# Altium footprint library Inductor_SMD.PcbLib: 259 footprints (part 13 of 17)
Each footprint in its own frame and in the unit in brackets; x right, y up, seen from the top. Pads: shape width x height; smd on the part's side, far side on the other; paste and mask are expansions set on the pad; w line width, h text height; cw(c..) or ccw(c..) is an arc to the next point about the centre after c.
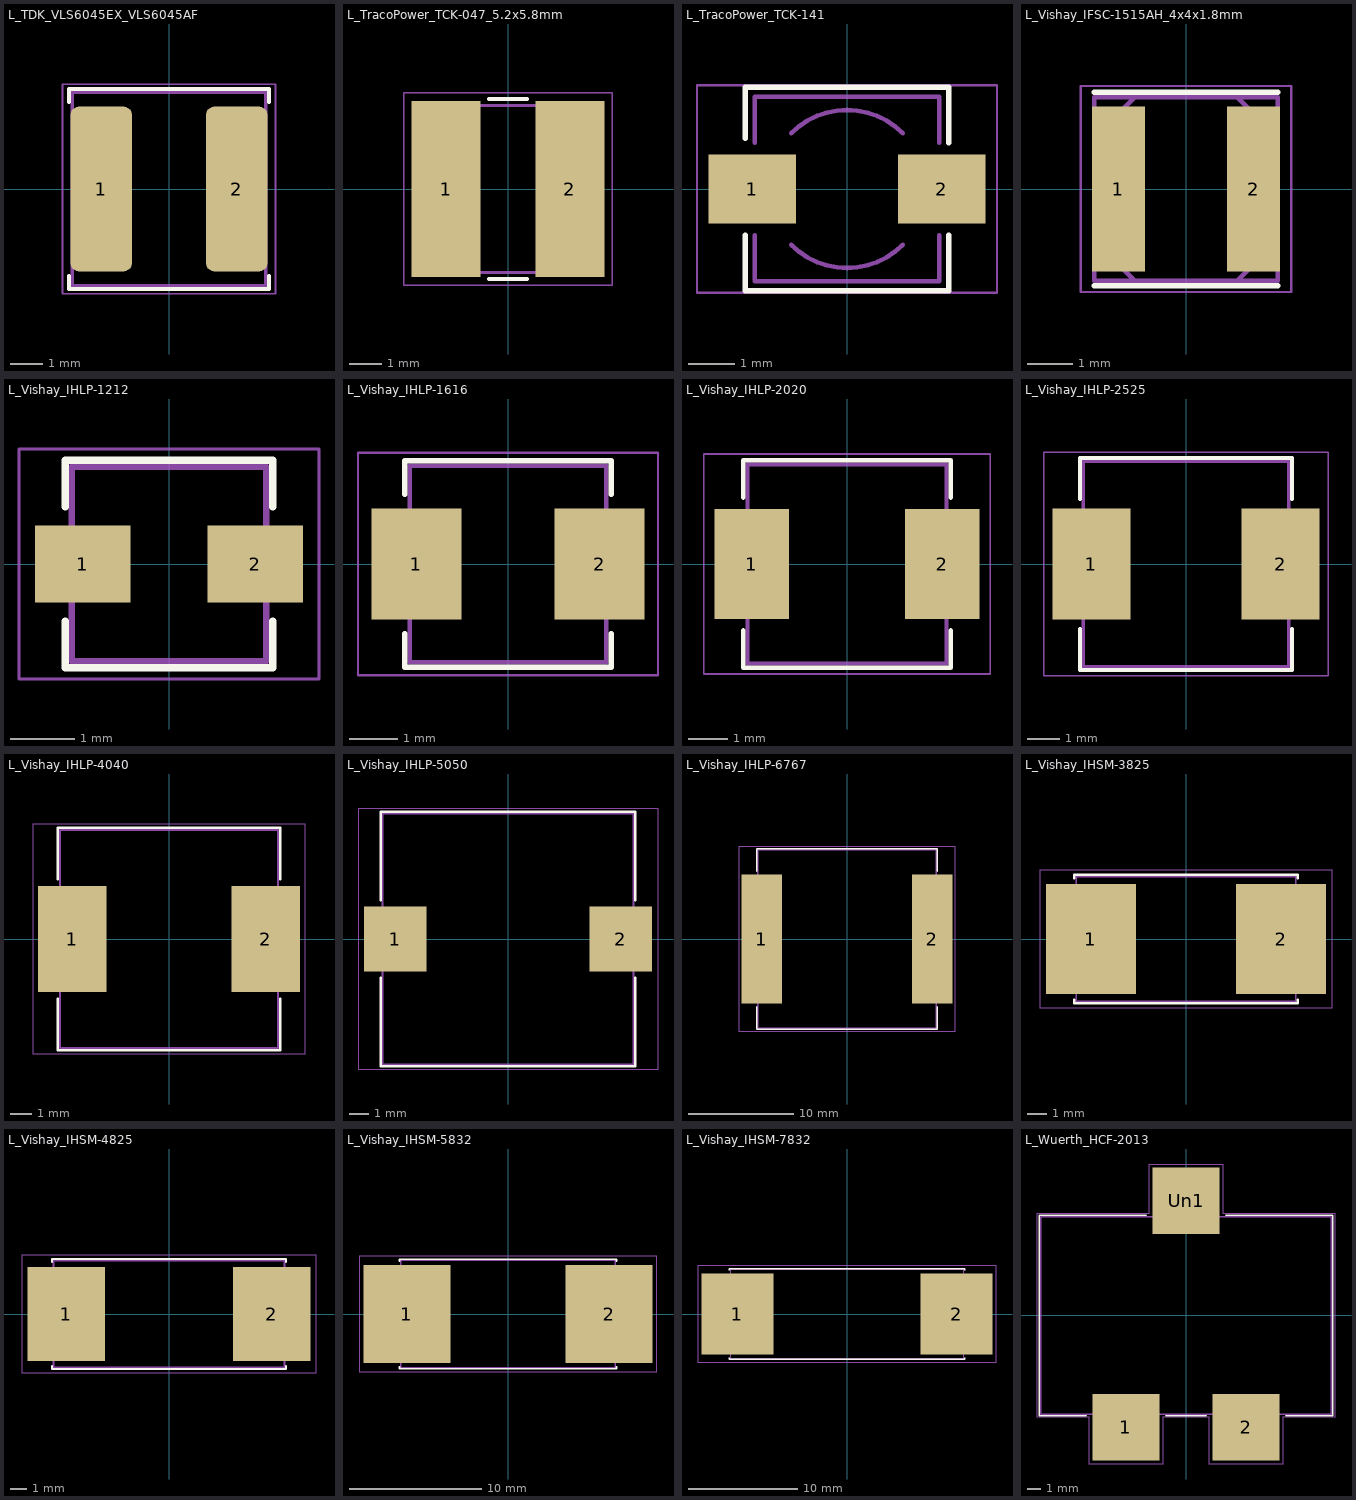
[diagram p12: the footprints below, top view; thin cyan lines are the x and y axes]

## L_TDK_VLS6045EX_VLS6045AF [mm]
pads (2):
  rrect25% 1.9x5.1 smd: 1(-2.1,0) 2(2.1,0)
F.SilkS:
  lines w0.12: -3.1,-2.7 -3.1,-3.1 3.1,-3.1 3.1,-2.7 ; -3.1,2.7 -3.1,3.1 3.1,3.1 3.1,2.7
F.CrtYd:
  lines w0.05: -3.3,-3.25 -3.3,3.25 3.3,3.25 3.3,-3.25 -3.3,-3.25
F.Fab:
  lines w0.1: -3,-3 -3,3 3,3 3,-3 -3,-3
  text "'.Designator'" at -4.047,-0.84 h1

## L_TracoPower_TCK-047_5.2x5.8mm [mm]
pads (2):
  rect 2.15x5.5 smd: 1(-1.925,0) 2(1.925,0)
F.SilkS:
  lines w0.12: -0.6,-2.8 0.6,-2.8 ; -0.6,2.8 0.6,2.8
F.CrtYd:
  lines w0.05: -3.25,-3 -3.25,3 3.25,3 3.25,-3 -3.25,-3
F.Fab:
  lines w0.1: -1.285,-2.6 1.285,-2.6 ccw(c0,0) 1.285,2.6 -1.285,2.6 ccw(c0,0) -1.285,-2.6
  text "'.Designator'" at -4.047,-0.84 h1

## L_TracoPower_TCK-141 [mm]
pads (2):
  rect 1.9x1.5 smd: 1(-2.05,0) 2(2.05,0)
F.SilkS:
  lines w0.12: -2.2,-1 -2.2,-2.2 2.2,-2.2 2.2,-1 ; -2.2,1.1 -2.2,2.2 2.2,2.2 2.2,1
F.CrtYd:
  lines w0.05: -3.25,-2.25 -3.25,2.25 3.25,2.25 3.25,-2.25 -3.25,-2.25
F.Fab:
  lines w0.1: -2,-2 2,-2 2,-1 ; -2,-1.95 -2,-1 ; -2,1 -2,2 2,2 ; -1.21,-1.21 ccw(c0,0) 1.21,-1.21 ; -1.21,1.21 cw(c0,0) 1.21,1.21 ; 2,1 2,1.95
  text "'.Designator'" at -1.634,-0.351 h0.4

## L_Vishay_IFSC-1515AH_4x4x1.8mm [mm]
pads (2):
  rect 1.15x3.6 smd: 1(-1.475,0) 2(1.475,0)
F.SilkS:
  lines w0.12: -2,-2.11 2,-2.11 ; -2,2.11 2,2.11
F.CrtYd:
  lines w0.05: -2.3,-2.25 -2.3,2.25 2.3,2.25 2.3,-2.25 -2.3,-2.25
F.Fab:
  lines w0.1: -2,-1.115 -1.115,-2 ; -2,1.115 -1.115,2 ; 1.115,-2 2,-1.115 ; 1.115,2 2,1.115 ; -2,-2 2,-2 2,2 -2,2 -2,-2
  text "'.Designator'" at -3.237,-0.672 h0.8

## L_Vishay_IHLP-1212 [mm]
pads (2):
  rect 1.5x1.2 smd: 1(-1.35,0) 2(1.35,0)
F.SilkS:
  lines w0.12: -1.624,-0.9 -1.624,-1.624 1.624,-1.624 1.624,-0.9 ; -1.624,0.9 -1.624,1.624 1.624,1.624 1.624,0.9
F.CrtYd:
  lines w0.05: -2.35,-1.8 2.35,-1.8 2.35,1.8 -2.35,1.8 -2.35,-1.8
F.Fab:
  lines w0.1: -1.524,-1.524 1.524,-1.524 1.524,1.524 -1.524,1.524 -1.524,-1.524
  text "'.Designator'" at -2.833,-0.588 h0.7

## L_Vishay_IHLP-1616 [mil]
pads (2):
  rect 73.01x90 smd: 1(-74.5,0) 2(74.5,0)
F.SilkS:
  lines w4.72: -83.94,-56.81 -83.94,-83.94 83.94,-83.94 83.94,-56.81 ; -83.94,56.81 -83.94,83.94 83.94,83.94 83.94,56.81
F.CrtYd:
  lines w1.97: -122.05,-90.55 -122.05,90.55 122.05,90.55 122.05,-90.55 -122.05,-90.55
F.Fab:
  lines w3.94: -80,-80 80,-80 80,80 -80,80 -80,-80
  text "'.Designator'" at -159.32,-33.08 h39.37

## L_Vishay_IHLP-2020 [mm]
pads (2):
  rect 1.903x2.79 smd: 1(-2.427,0) 2(2.427,0)
F.SilkS:
  lines w0.12: -2.64,-1.695 -2.64,-2.64 2.64,-2.64 2.64,-1.695 ; -2.64,1.695 -2.64,2.64 2.64,2.64 2.64,1.695
F.CrtYd:
  lines w0.05: -3.65,-2.8 3.65,-2.8 3.65,2.8 -3.65,2.8 -3.65,-2.8
F.Fab:
  lines w0.1: -2.54,-2.54 -2.54,2.54 2.54,2.54 2.54,-2.54 -2.54,-2.54
  text "'.Designator'" at -4.047,-0.84 h1

## L_Vishay_IHLP-2525 [mil]
pads (2):
  rect 95x135 smd: 1(-115,0) 2(115,0)
F.SilkS:
  lines w4.72: -128.94,-79.31 -128.94,-128.94 128.94,-128.94 128.94,-79.31 ; -128.94,79.31 -128.94,128.94 128.94,128.94 128.94,79.31
F.CrtYd:
  lines w1.97: -173.23,-135.83 173.23,-135.83 173.23,135.83 -173.23,135.83 -173.23,-135.83
F.Fab:
  lines w3.94: -125,-125 -125,125 125,125 125,-125 -125,-125
  text "'.Designator'" at -159.32,-33.08 h39.37

## L_Vishay_IHLP-4040 [mm]
pads (2):
  rect 3.175x4.95 smd: 1(-4.507,0) 2(4.507,0)
F.SilkS:
  lines w0.12: -5.18,-2.775 -5.18,-5.18 5.18,-5.18 5.18,-2.775 ; -5.18,2.775 -5.18,5.18 5.18,5.18 5.18,2.775
F.CrtYd:
  lines w0.05: -6.35,-5.35 6.35,-5.35 6.35,5.35 -6.35,5.35 -6.35,-5.35
F.Fab:
  lines w0.1: -5.08,-5.08 -5.08,5.08 5.08,5.08 5.08,-5.08 -5.08,-5.08
  text "'.Designator'" at -4.047,-0.84 h1

## L_Vishay_IHLP-5050 [mm]
pads (2):
  rect 3.175x3.3 smd: 1(-5.715,0) 2(5.715,0)
F.SilkS:
  lines w0.12: -6.45,-1.95 -6.45,-6.45 6.45,-6.45 6.45,-1.95 ; -6.45,1.95 -6.45,6.45 6.45,6.45 6.45,1.95
F.CrtYd:
  lines w0.05: -7.6,-6.6 7.6,-6.6 7.6,6.6 -7.6,6.6 -7.6,-6.6
F.Fab:
  lines w0.1: -6.35,-6.35 -6.35,6.35 6.35,6.35 6.35,-6.35 -6.35,-6.35
  text "'.Designator'" at -4.047,-0.84 h1

## L_Vishay_IHLP-6767 [mm]
pads (2):
  rect 3.825x12.32 smd: 1(-8.123,0) 2(8.123,0)
F.SilkS:
  lines w0.15: -8.609,-6.46 -8.609,-8.609 8.609,-8.609 8.609,-6.46 ; -8.609,6.46 -8.609,8.609 8.609,8.609 8.609,6.46
F.CrtYd:
  lines w0.05: -10.3,-8.8 -10.3,8.8 10.3,8.8 10.3,-8.8 -10.3,-8.8
F.Fab:
  lines w0.15: -8.509,-8.509 -8.509,8.509 8.509,8.509 8.509,-8.509 -8.509,-8.509
  text "'.Designator'" at -4.047,-0.84 h1

## L_Vishay_IHSM-3825 [mm]
pads (2):
  rect 4.6x5.6 smd: 1(-4.84,0) 2(4.84,0)
F.SilkS:
  lines w0.12: -5.69,-3.1 -5.69,-3.275 0,-3.275 5.69,-3.275 5.69,-3.1 ; -5.69,3.1 -5.69,3.275 0,3.275 5.69,3.275 5.69,3.1
F.CrtYd:
  lines w0.05: -7.45,-3.5 -7.45,3.5 7.45,3.5 7.45,-3.5 -7.45,-3.5
F.Fab:
  lines w0.1: -5.59,-3.175 5.59,-3.175 5.59,3.175 -5.59,3.175 -5.59,-3.175
  text "'.Designator'" at -4.047,-0.84 h1

## L_Vishay_IHSM-4825 [mm]
pads (2):
  rect 4.6x5.6 smd: 1(-6.11,0) 2(6.11,0)
F.SilkS:
  lines w0.12: -6.96,-3.1 -6.96,-3.275 0,-3.275 6.96,-3.275 6.96,-3.1 ; -6.96,3.1 -6.96,3.275 0,3.275 6.96,3.275 6.96,3.1
F.CrtYd:
  lines w0.05: -8.75,-3.5 8.75,-3.5 8.75,3.5 -8.75,3.5 -8.75,-3.5
F.Fab:
  lines w0.1: -6.86,-3.175 -6.86,3.175 6.86,3.175 6.86,-3.175 -6.86,-3.175
  text "'.Designator'" at -4.047,-0.84 h1

## L_Vishay_IHSM-5832 [mm]
pads (2):
  rect 6.6x7.4 smd: 1(-7.682,0) 2(7.682,0)
F.SilkS:
  lines w0.12: -8.23,-4 -8.23,-4.165 0,-4.165 8.23,-4.165 8.23,-4 ; -8.23,4 -8.23,4.165 0,4.165 8.23,4.165 8.23,4
F.CrtYd:
  lines w0.05: -11.3,-4.4 -11.3,4.4 11.3,4.4 11.3,-4.4 -11.3,-4.4
F.Fab:
  lines w0.1: -8.13,-4.065 -8.13,4.065 8.13,4.065 8.13,-4.065 -8.13,-4.065
  text "'.Designator'" at -4.047,-0.84 h1

## L_Vishay_IHSM-7832 [mm]
pads (2):
  rect 6.6x7.4 smd: 1(-10.031,0) 2(10.031,0)
F.SilkS:
  lines w0.12: -10.77,-4 -10.77,-4.165 0,-4.165 10.77,-4.165 10.77,-4 ; -10.77,4 -10.77,4.165 0,4.165 10.77,4.165 10.77,4
F.CrtYd:
  lines w0.05: -13.65,-4.4 -13.65,4.4 13.65,4.4 13.65,-4.4 -13.65,-4.4
F.Fab:
  lines w0.1: -10.67,-4.065 -10.67,4.065 10.67,4.065 10.67,-4.065 -10.67,-4.065
  text "'.Designator'" at -4.047,-0.84 h1

## L_Wuerth_HCF-2013 [mm]
pads (3):
  rect 5x5 smd: 1(-4.5,-8.4) 2(4.5,-8.4) Un1(0,8.6)
F.SilkS:
  lines w0.12: -7.5,-7.52 -11.02,-7.52 -11.02,7.52 -3,7.52 ; -1.5,-7.52 1.5,-7.52 ; 3,7.52 11.02,7.52 11.02,-7.52 7.5,-7.52
F.CrtYd:
  lines w0.05: -11.15,-7.65 -7.25,-7.65 -7.25,-11.15 -1.75,-11.15 -1.75,-7.65 1.75,-7.65 1.75,-11.15 7.25,-11.15 7.25,-7.65 11.15,-7.65 11.15,7.65 2.75,7.65 2.75,11.35 -2.75,11.35 -2.75,7.65 -11.15,7.65 -11.15,-7.65
F.Fab:
  lines w0.1: -10.9,-7.4 -10.9,7.4 10.9,7.4 10.9,-7.4 -10.9,-7.4
  text "'.Designator'" at -4.047,-0.84 h1